# Altium footprint library footprints.PcbLib: 13 footprints
Each footprint in its own frame and in the unit in brackets; x right, y up, seen from the top. Pads: shape width x height; smd on the part's side, far side on the other; paste and mask are expansions set on the pad; w line width, h text height; cw(c..) or ccw(c..) is an arc to the next point about the centre after c.
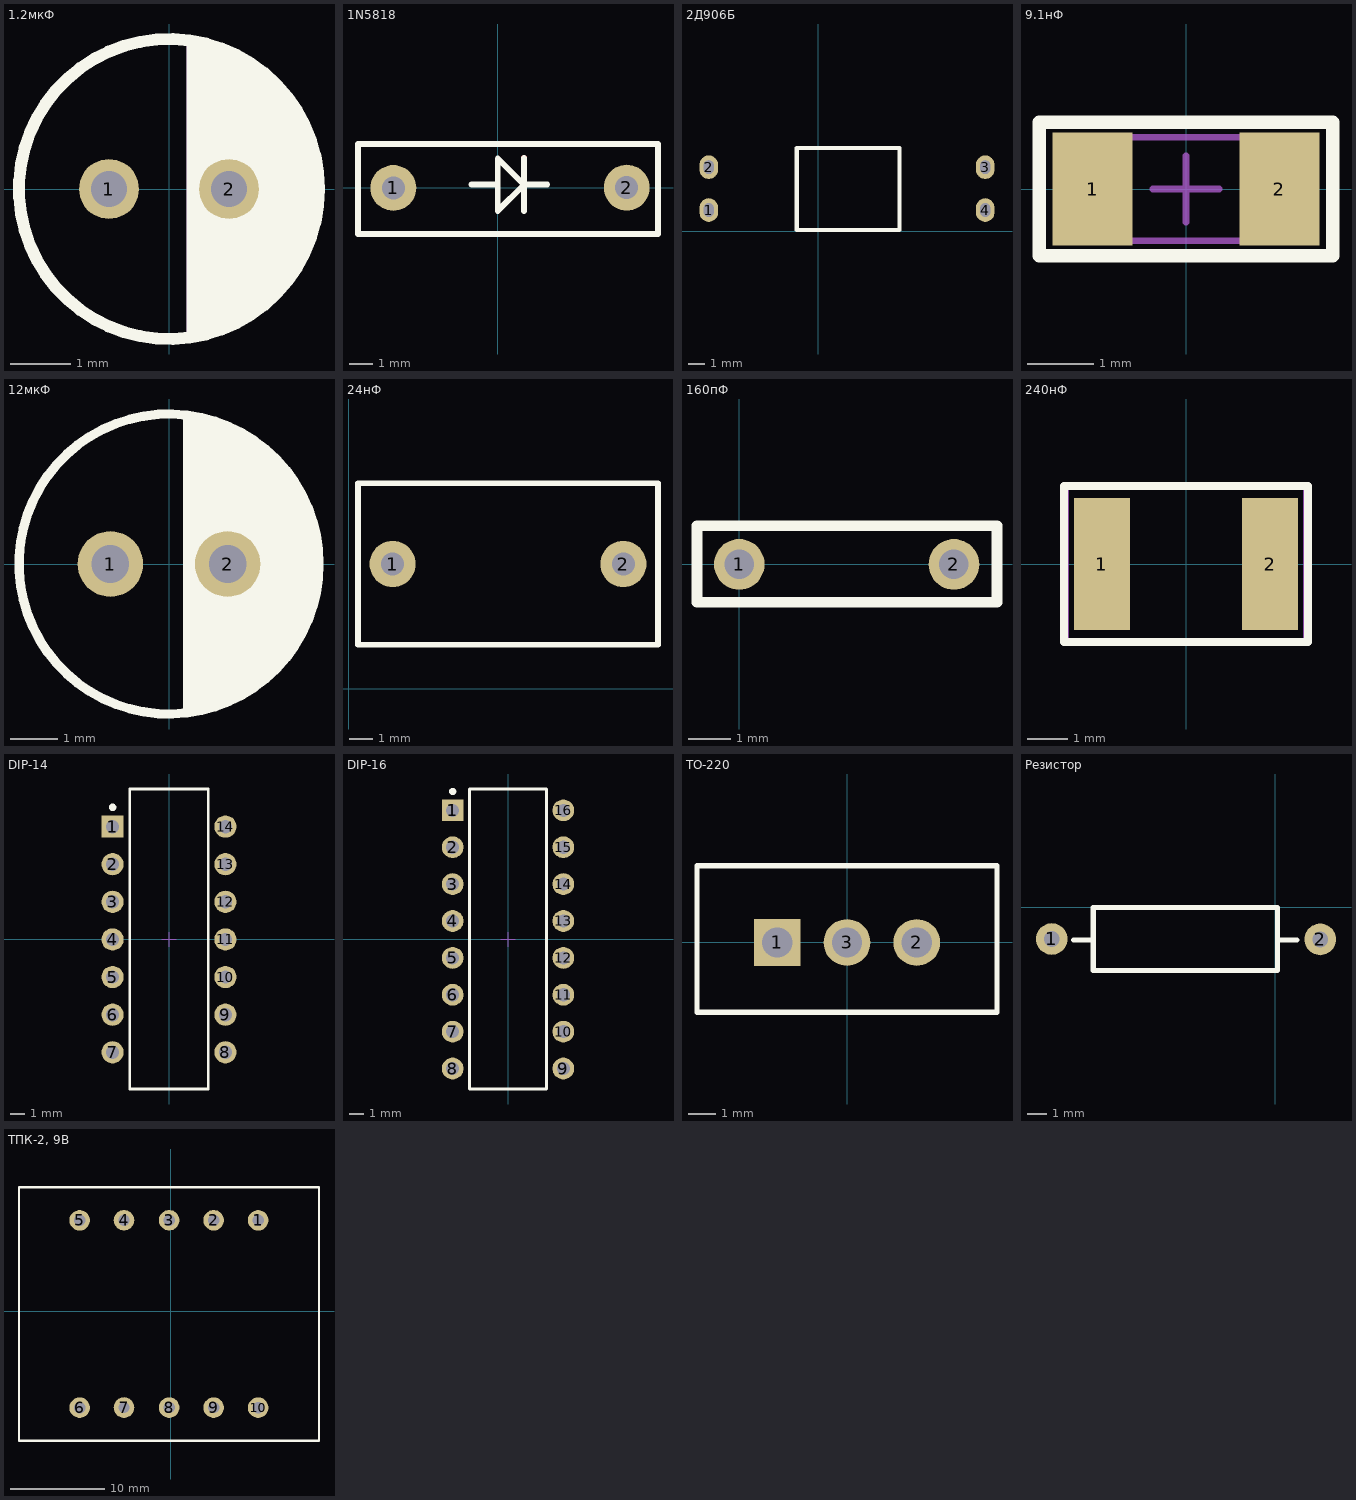
[diagram p0: the footprints below, top view; thin cyan lines are the x and y axes]

## 1.2мкФ [mm]
pads (2):
  round 1 hole 0.6: 1(-1,0) 2(1,0)
Top Overlay:
  circle w0.2: c0,0 r2.5
  region: 0.3,-2.5 0.3,2.5 0.975,2.3 1.575,1.95 1.925,1.6 2.175,1.225 2.45,0.575 2.5,0 2.425,-0.625 2.2,-1.225 1.725,-1.8 1.2,-2.2 0.7,-2.425 0.325,-2.5
Mechanical 1:
  circle w0.1: c0,0 r2.5
  region: 0.3,-2.5 0.3,2.5 0.975,2.3 1.575,1.95 1.925,1.6 2.175,1.225 2.45,0.575 2.5,0 2.425,-0.625 2.2,-1.225 1.725,-1.8 1.2,-2.2 0.7,-2.425 0.325,-2.5
Mechanical 15:
  circle w0.1: c0,0 r2.5
3D body "User Library-CapAluRadial_D50H110.STEP": height 12.6, standoff -3.9, extent -2.75,-2.741 2.742,2.742

## 1N5818 [mm]
pads (2):
  round 2 hole 1: 1(-4.554,-0.019) 2(5.62,-0.004)
Top Layer:
  lines w0.254: 1.143,1.294 1.146,1.298
Top Overlay:
  lines w0.254: -1.147,0.129 -0.071,0.129 ; 1.143,-1.016 1.143,1.294 ; 2.159,0.127 1.143,0.127 ; 1.143,0.127 0,-1.016 0,1.016 0,1.27 1.143,0.127 ; -6.096,-2.032 6.985,-2.032 6.985,1.905 -6.096,1.905 -6.096,-2.032
3D body "DO-41.step": height 3.73, standoff -1.6, extent -4.948,-1.405 6.076,1.315

## 2Д906Б [mm]
pads (4):
  oval 1.1x1.4 hole 0.6 slot 0.8 at 90 deg: 1(-6.477,1.27) 2(-6.477,3.81) 3(9.906,3.81) 4(9.906,1.27)
Top Overlay:
  lines w0.254: 4.816,0.082 -1.27,0.082 -1.27,4.953 4.826,4.953 ; 4.826,0.127 4.826,4.905
3D body: height 4.5, standoff 1.5, extent -1.397,0 4.953,5.08
3D body: height 3, standoff -1.5, extent -6.652,0.97 -6.302,1.57
3D body: height 3, standoff 2.65, extent -6.477,0.97 -1.377,1.57
3D body: height 3, standoff -1.5, extent -6.652,3.51 -6.302,4.11
3D body: height 3, standoff 2.65, extent -6.477,3.51 -1.377,4.11
3D body: height 3, standoff -1.5, extent 9.731,3.51 10.081,4.11
3D body: height 3, standoff 2.65, extent 4.806,3.51 9.906,4.11
3D body: height 3, standoff -1.5, extent 9.731,0.97 10.081,1.57
3D body: height 3, standoff 2.65, extent 4.806,0.97 9.906,1.57

## 9.1нФ [mm]
pads (2):
  rect 1.2x1.7 smd mask+0.065: 1(-1.4,0) 2(1.4,0)
Top Overlay:
  lines w0.2: -2.2,-1 -2.2,1 2.2,1 2.2,-1 -2.2,-1
Mechanical 1:
  lines w0.1: -1.6,-0.775 -1.6,0.775 1.6,0.775 1.6,-0.775 -1.6,-0.775
Mechanical 15:
  lines w0.1: -0.5,0 0.5,0 ; 0,-0.5 0,0.5 ; -2.2,-1 2.2,-1 2.2,1 -2.2,1 -2.2,-1
3D body "SW3dPS-1206 SMD Capacitor.STEP": height 1, standoff 0, extent -1.6,-0.8 1.6,0.8

## 12мкФ [mm]
pads (2):
  round 1.4 hole 0.8: 1(-1.25,0) 2(1.25,0)
Top Overlay:
  circle w0.2: c0,0 r3.2
  region: 0.3,-3.2 0.3,3.2 1.025,3.05 1.825,2.65 2.45,2.075 2.825,1.5 3.1,0.75 3.2,0 3.125,-0.65 2.925,-1.325 2.5,-2 1.975,-2.525 1.325,-2.9 0.675,-3.125
Mechanical 1:
  circle w0.1: c0,0 r3.2
  region: 0.3,-3.2 0.3,3.2 1.025,3.05 1.825,2.65 2.45,2.075 2.825,1.5 3.1,0.75 3.2,0 3.125,-0.65 2.925,-1.325 2.5,-2 1.975,-2.525 1.325,-2.9 0.675,-3.125
Mechanical 15:
  circle w0.1: c0,0 r3.2
3D body "User Library-CapAluRadial_D63H110.STEP": height 12.5, standoff -3, extent -3.4,-3.396 3.39,3.396

## 24нФ [mm]
pads (2):
  round 2 hole 1: 1(1.9,5.4) 2(11.9,5.4)
Top Overlay:
  lines w0.254: 0.4,1.9 0.4,8.9 13.4,8.9 13.4,1.9 0.4,1.9
3D body: height 16, standoff 7, extent 0.7,2.4 13.1,8.4
3D body: height 7, standoff -3, extent 1.45,4.95 2.35,5.85
3D body: height 7, standoff -3, extent 11.45,4.95 12.35,5.85

## 160пФ [mm]
pads (2):
  round 1.2 hole 0.7: 1(0,0) 2(5.08,0)
Top Overlay:
  lines w0.254: -1,-0.9 -1,0.915 6.1,0.915 6.1,-0.9 -1,-0.9
3D body: height 7.8, standoff 4.2, extent 0.732,-0.568 4.332,0.702
3D body: height 5.25, standoff 4.75, extent -0.227,-0.252 1.273,0.248
3D body: height 5, standoff -2, extent 4.832,-0.242 5.332,0.258
3D body: height 5, standoff -2, extent -0.246,-0.247 0.254,0.253
3D body: height 5.25, standoff 4.75, extent 3.807,-0.248 5.307,0.252

## 240нФ [mm]
pads (2):
  rect 1.4x3.3 smd mask+0.065: 1(-2.1,0) 2(2.1,0)
Top Overlay:
  lines w0.2: -3.05,-1.95 -3.05,1.95 3.05,1.95 3.05,-1.95 -3.05,-1.95
Mechanical 1:
  lines w0.1: -2.25,-1.6 -2.25,1.6 ; 2.25,-1.6 2.25,1.6
Mechanical 15:
  lines w0.05: -2.95,-1.95 -2.95,1.95 2.95,1.95 2.95,-1.95 -2.95,-1.95
3D body "SW3dPS-1812 SMD Capacitor.STEP": height 1.6, standoff 0, extent -2.25,-1.6 2.25,1.6

## DIP-14 [mm] "DIP; 14 Leads; Row Spacing 7.62 mm; Pitch 2.54 mm"
height 5.08
pads (14):
  rect 1.5x1.5 hole 0.9: 1(-3.81,7.62)
  round 1.5 hole 0.9: 2(-3.81,5.08) 3(-3.81,2.54) 4(-3.81,0) 5(-3.81,-2.54) 6(-3.81,-5.08) 7(-3.81,-7.62) 8(3.81,-7.62) 9(3.81,-5.08) 10(3.81,-2.54) 11(3.81,0) 12(3.81,2.54) 13(3.81,5.08) 14(3.81,7.62)
Top Overlay:
  circle w0.25: c-3.81,8.92 r0.125
  lines w0.2: -2.65,-10.1 -2.65,10.16 2.65,10.16 2.65,-10.1 -2.65,-10.1
Mechanical 15:
  lines w0.05: -0.5,0 0.5,0 ; 0,-0.5 0,0.5
3D body "DIP14.STEP": height 4.7, standoff -2.6, extent -3.916,-8.672 3.954,8.748

## DIP-16 [mm] "DIP; 16 Leads; Row Spacing 7.62 mm; Pitch 2.54 mm"
height 5.08
pads (16):
  rect 1.5x1.5 hole 0.9: 1(-3.81,8.89)
  round 1.5 hole 0.9: 2(-3.81,6.35) 3(-3.81,3.81) 4(-3.81,1.27) 5(-3.81,-1.27) 6(-3.81,-3.81) 7(-3.81,-6.35) 8(-3.81,-8.89) 9(3.81,-8.89) 10(3.81,-6.35) 11(3.81,-3.81) 12(3.81,-1.27) 13(3.81,1.27) 14(3.81,3.81) 15(3.81,6.35) 16(3.81,8.89)
Top Overlay:
  circle w0.25: c-3.81,10.19 r0.125
  lines w0.2: -2.65,-10.3 -2.65,10.359 2.65,10.359 2.65,-10.3 -2.65,-10.3
Mechanical 15:
  lines w0.05: -0.5,0 0.5,0 ; 0,-0.5 0,0.5
3D body "DIP16.STEP": height 4.7, standoff -2.6, extent -3.941,-10.031 3.929,9.929

## TO-220 [mm] "TO, Thru-Hole, Vertical, Heatsink Mounted; 3 In-Line Leads; Pitch 2.54 mm"
height 21.4
pads (3):
  rect 1.7x1.7 hole 1.1: 1(-2.54,0)
  round 1.7 hole 1.1: 2(2.54,0) 3(0,0)
Top Overlay:
  lines w0.2: -5.461,-2.54 -5.461,2.794 5.461,2.794 5.461,-2.54 -5.461,-2.54
3D body "User Library-TO-220-1.STEP": height 24.8, standoff -3.98, extent -4.95,-2.1 4.95,2.4

## Резистор [mm]
pads (2):
  round 1.6 hole 0.8: 1(-11.3,-1.6) 2(2.266,-1.622)
Top Overlay:
  lines w0.254: -10.2,-1.651 -9.214,-1.661 ; 0.112,-1.651 1.1,-1.651 ; -9.206,-3.2 0.112,-3.2 0.112,0 -9.206,0 -9.206,-3.2
3D body "res-13.55_10x4.step": height 5.6, standoff -1, extent -11.64,-3.601 2.605,0.39

## ТПК-2, 9В [mm]
pads (10):
  round 2.2 hole 1.2: 1(9.311,9.69) 2(4.565,9.697) 3(-0.183,9.7) 4(-5,9.703) 5(-9.729,9.69) 6(-9.729,-10.292) 7(-5,-10.28) 8(-0.183,-10.282) 9(4.565,-10.286) 10(9.311,-10.292)
Top Overlay:
  lines w0.254: -16.2,-13.8 -16.2,13.2 15.8,13.2 15.8,-13.8 -16.2,-13.8
3D body "¦в¦Я¦Ъ-2 Series_Assembly.stp": height 32, standoff -3, extent -16.2,-13.8 15.8,13.2